# EAGLE library part HDSP-U* (library LED displeje)
LED displej 8 mm
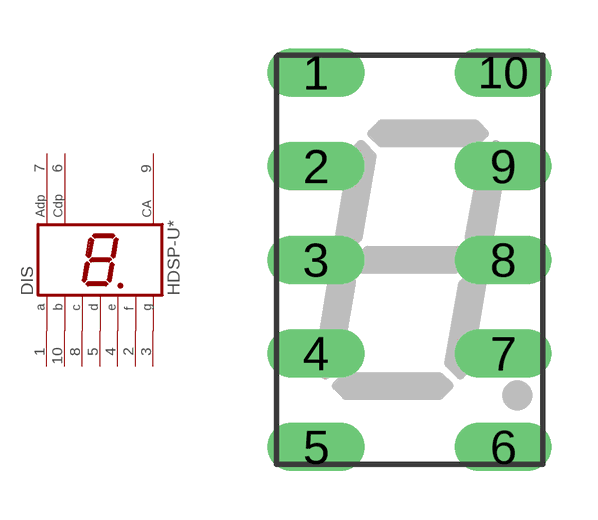
[diagram p47: symbol with the pads of HDSP-F; footprint HDSP-F]

Designator prefix DIS

## HDSP-U101, HDSP-U111, HDSP-U201, HDSP-U211, HDSP-U301, HDSP-U311, HDSP-U401, HDSP-U411, HDSP-U501, HDSP-U511  [HDSP-F]
1  A  pas
2  F  pas
3  G  pas
4  E  pas
5  D  pas
6  CDP  pas
7  ADP  pas
8  C  pas
9  CA  pas
10  B  pas

## Footprint HDSP-F (pad centres in mm)
LED DISPLAY 8-mm 1 character 7 segment, decimal point right
drill 0.813 long: 1 -2.54,5.08; 2 -2.54,2.54; 3 -2.54,0; 4 -2.54,-2.54; 5 -2.54,-5.08; 6 2.54,-5.08; 7 2.54,-2.54; 8 2.54,0; 9 2.54,2.54; 10 2.54,5.08